# Altium integrated library MICRO_USB.IntLib: 1 symbol
Pins are listed as number, name and electrical type; pins without a type are passive.

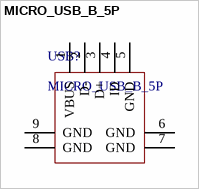
[diagram p0: symbol MICRO_USB_B_5P]

## MICRO_USB_B_5P
designator USB?
footprint MICRO_USB_B_5P
pins: 1 VBUS, 2 D-, 3 D+, 4 ID, 5 GND, 6 GND, 7 GND, 8 GND, 9 GND